# Altium footprint library Elet_pot_2.PcbLib: 15 footprints
Each footprint in its own frame and in the unit in brackets; x right, y up, seen from the top. Pads: shape width x height; smd on the part's side, far side on the other; paste and mask are expansions set on the pad; w line width, h text height; cw(c..) or ccw(c..) is an arc to the next point about the centre after c.
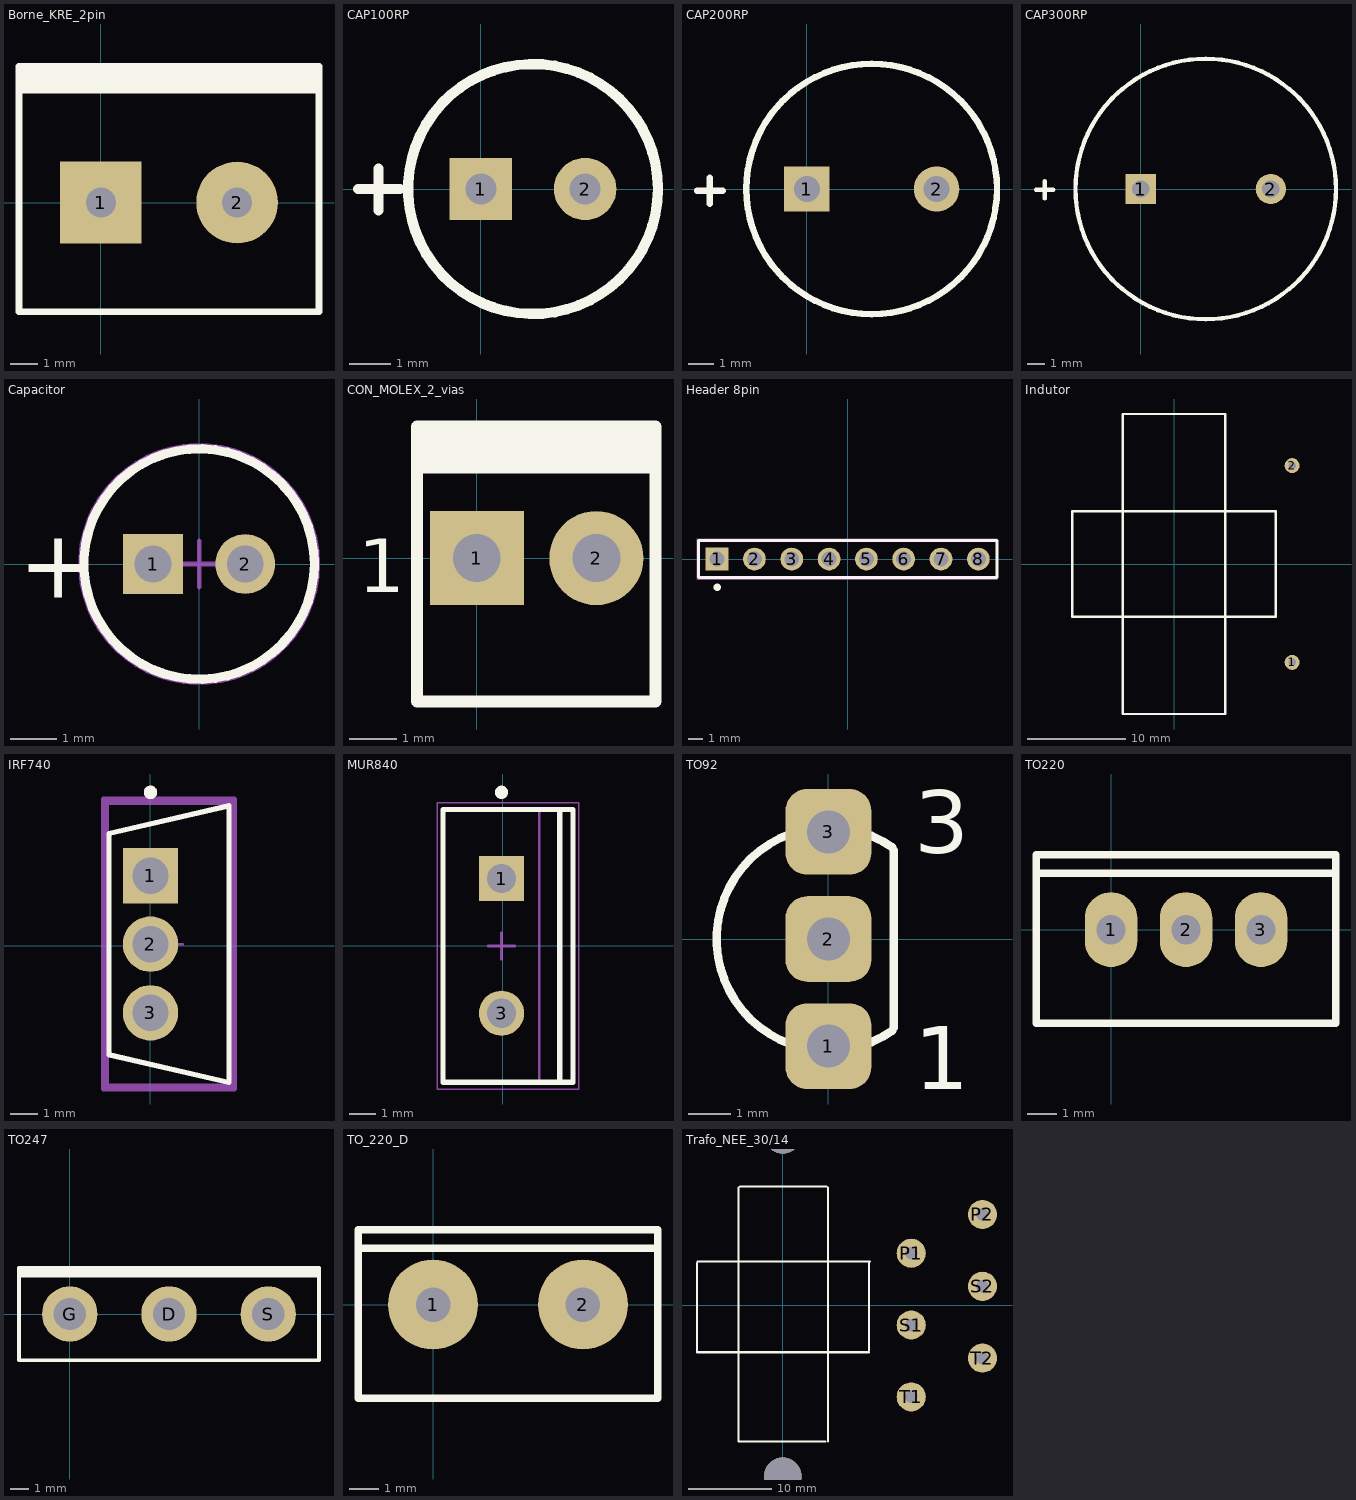
[diagram p0: the footprints below, top view; thin cyan lines are the x and y axes]

## Borne_KRE_2pin [mm]
pads (2):
  rect 3x3 hole 1.1: 1(0,0)
  round 3 hole 1.1: 2(5,0)
Top Overlay:
  rectangle: -3,4.15 8,5
  lines w0.254: -3,4.125 8,4.125 ; -1.275,4.125 -1.275,5 ; -3,-4 8,-4 8,5 -3,5 -3,-4

## CAP100RP [mil]
pads (2):
  rect 60x60 hole 30: 1(0,0)
  round 60 hole 30: 2(100,0)
Top Overlay:
  circle w10: c50,0 r120
  lines w10: -118.11,0 -78.11,0 ; -98.42,-20.32 -98.42,19.68
Bottom Overlay:
  circle w10: c50,0 r120
  lines w10: -118.11,0 -78.11,0 ; -98.42,-20.32 -98.42,19.68

## CAP200RP [mil]
pads (2):
  rect 70x70 hole 40: 1(0,0)
  round 70 hole 40: 2(200,0)
Top Overlay:
  circle w10: c100,0 r192.91
  lines w10: -169,-3 -129,-3 ; -149,-23 -149,17

## CAP300RP [mil]
pads (2):
  rect 70x70 hole 40: 1(0,0)
  round 70 hole 40: 2(300,0)
Top Overlay:
  circle w10: c150,0 r300
  lines w10: -241,-2 -201,-2 ; -221,-22 -221,18

## Capacitor [mm]
pads (2):
  rect 1.3x1.3 hole 0.8: 1(-1,0)
  round 1.3 hole 0.8: 2(1,0)
Top Overlay:
  circle w0.2: c0,0 r2.5
  text "+" at -3.908,-0.737 h1.5
Mechanical 13:
  circle w0.1: c0,0 r2.5
Mechanical 15:
  circle w0.05: c0,0 r2.6
  lines w0.1: -0.5,0 0.5,0 ; 0,-0.5 0,0.5
3D body: height 12, standoff 0, extent -2,-2 1.999,1.999
3D body: height 11.89, standoff 0.02, extent -2.449,-2.449 2.449,2.449
3D body: height 12, standoff 0.01, extent -2.499,-2.499 2.432,2.499
3D body: height 0, standoff -14, extent 0.752,-0.249 1.25,0.25
3D body: height 0, standoff -17, extent -1.248,-0.249 -0.75,0.25

## CON_MOLEX_2_vias [mm]
pads (2):
  rect 2x2 hole 1.016: 1(0,0)
  round 2 hole 1.016: 2(2.54,0)
Top Overlay:
  rectangle: -1.275,1.95 3.85,2.8
  lines w0.254: -1.275,2.55 -1.275,-3.05 0.51,-3.05 3.8,-3.05 3.8,2.8 -1.275,2.8 -1.275,1.925 3.8,1.925
  text "1" at -2.525,-0.725 h1.14

## Header 8pin [mm]
pads (8):
  rect 1.55x1.55 hole 1.016: 1(-8.89,0)
  round 1.55 hole 1.016: 2(-6.35,0) 3(-3.81,0) 4(-1.27,0) 5(1.27,0) 6(3.81,0) 7(6.35,0) 8(8.89,0)
Top Overlay:
  circle w0.25: c-8.89,-1.92 r0.125
  lines w0.2: -10.16,-1.27 10.16,-1.27 10.16,1.27 -10.16,1.27 -10.16,-1.27
Mechanical 13:
  lines w0.1: -10.16,-1.27 -10.16,1.27 10.16,1.27 10.16,-1.27 -10.16,-1.27
Mechanical 15:
  lines w0.05: -10.26,-1.37 10.16,-1.37 10.16,1.37 -10.26,1.37 -10.26,-1.37

## Indutor [mil]
pads (2):
  round 60 hole 30: 1(472.44,-393.7) 2(472.44,393.7)
via 0,-789.37 diameter 177.17 hole 177.17
via 0,787.4 diameter 177.17 hole 177.17
Top Overlay:
  lines w10: -407.48,-210.63 407.48,-210.63 407.48,210.63 -407.48,210.63 -407.48,-210.63 ; -204.72,-600.39 204.72,-600.39 204.72,600.39 -204.72,600.39 -204.72,-600.39
3D body: height 1216.54, standoff 0, extent -204.72,-599.41 204.72,599.41
3D body: height 944.88, standoff 157.48, extent -407.48,-210.63 405.51,210.63

## IRF740 [mm]
pads (3):
  rect 2.05x2.05 hole 1.35 paste-2539.97 mask+0: 1(0,2.59)
  round 2.05 hole 1.35 paste-2539.97 mask+0: 2(0,0.05) 3(0,-2.49)
Top Overlay:
  circle w0.25: c0,5.67 r0.125
  lines w0.2: 2.907,-5.07 -1.538,-4.046 -1.538,4.146 2.907,5.17 ; 2.907,-5.02 2.907,5.12
Top 3D Body:
  lines w0.2: -1.64,-5.21 3.01,-5.21 3.01,5.31 -1.64,5.31 -1.64,-5.21
Board:
  lines w0.2: -1.74,-5.31 3.11,-5.31 3.11,5.41 -1.74,5.41 -1.74,-5.31
Top Assembly:
  lines w0.2: -1.74,-5.31 3.11,-5.31 3.11,5.41 -1.74,5.41 -1.74,-5.31
  text ".Designator" at 0.685,0.049 h1
Top Component Center:
  lines w0.1: 0.185,0.05 1.185,0.05 ; 0.685,-0.45 0.685,0.55
3D body "Trans_Vishay_IRF740PBF_eec.STEP": height 0.25, standoff 0, extent -1.74,-5.31 3.11,5.41

## MUR840 [mm]
pads (2):
  rect 1.7x1.7 hole 1.1: 1(-0.05,2.54)
  round 1.7 hole 1.1: 3(-0.05,-2.54)
Top Overlay:
  circle w0.25: c-0.05,5.8 r0.125
  lines w0.2: 2.145,-5.15 2.145,5.15 ; -2.255,-5.15 2.645,-5.15 2.645,5.15 -2.255,5.15 -2.255,-5.15
Mechanical 13:
  lines w0.1: 1.37,-5.15 1.37,5.15 ; -2.23,-5.15 -2.23,5.15 2.62,5.15 2.62,-5.15 -2.23,-5.15
Mechanical 15:
  lines w0.05: -2.48,-5.4 -2.48,5.4 2.87,5.4 2.87,-5.4 -2.48,-5.4
  lines w0.1: -0.55,0 0.45,0 ; -0.05,-0.5 -0.05,0.5
3D body: height 2.79, standoff 0, extent -0.3,1.875 0.2,3.205
3D body: height 0, standoff -1.6, extent -0.3,2.13 0.2,2.95
3D body: height 2.79, standoff 0, extent -0.3,-3.205 0.2,-1.875
3D body: height 0, standoff -1.6, extent -0.3,-2.95 0.2,-2.13
3D body: height 12.8, standoff 2.79, extent -2.23,-5.15 2.62,5.15
3D body: height 14.33, standoff 12.8, extent 1.37,-4.975 2.62,4.975
3D body: height 14.37, standoff 14.33, extent 1.37,0.376 2.62,4.975
3D body: height 14.37, standoff 14.33, extent 1.37,-4.975 2.62,-0.376
3D body: height 18.18, standoff 18.14, extent 1.37,0.376 2.62,4.975
3D body: height 18.18, standoff 18.14, extent 1.37,-4.975 2.62,-0.376
3D body: height 14.48, standoff 14.36, extent 1.37,0.737 2.62,4.975
3D body: height 14.48, standoff 14.36, extent 1.37,-4.975 2.62,-0.737
3D body: height 18.14, standoff 18.03, extent 1.37,0.737 2.62,4.975
3D body: height 18.14, standoff 18.03, extent 1.37,-4.975 2.62,-0.737
3D body: height 14.65, standoff 14.47, extent 1.37,1.069 2.62,4.975
3D body: height 14.65, standoff 14.47, extent 1.37,-4.975 2.62,-1.069
3D body: height 18.03, standoff 17.85, extent 1.37,1.069 2.62,4.975
3D body: height 18.03, standoff 17.85, extent 1.37,-4.975 2.62,-1.069
3D body: height 14.89, standoff 14.65, extent 1.37,1.361 2.62,4.975
3D body: height 14.89, standoff 14.65, extent 1.37,-4.975 2.62,-1.361
3D body: height 17.86, standoff 17.61, extent 1.37,1.361 2.62,4.975
3D body: height 17.86, standoff 17.61, extent 1.37,-4.975 2.62,-1.361
3D body: height 15.19, standoff 14.89, extent 1.37,1.601 2.62,4.975
3D body: height 15.19, standoff 14.89, extent 1.37,-4.975 2.62,-1.601
3D body: height 17.62, standoff 17.32, extent 1.37,1.601 2.62,4.975
3D body: height 17.62, standoff 17.32, extent 1.37,-4.975 2.62,-1.601
3D body: height 15.52, standoff 15.18, extent 1.37,1.778 2.62,4.975
3D body: height 15.52, standoff 15.18, extent 1.37,-4.975 2.62,-1.778
3D body: height 17.32, standoff 16.99, extent 1.37,1.778 2.62,4.975
3D body: height 17.32, standoff 16.99, extent 1.37,-4.975 2.62,-1.778
3D body: height 15.88, standoff 15.51, extent 1.37,1.888 2.62,4.975
3D body: height 15.88, standoff 15.51, extent 1.37,-4.975 2.62,-1.888
3D body: height 16.99, standoff 16.63, extent 1.37,1.888 2.62,4.975
3D body: height 16.99, standoff 16.63, extent 1.37,-4.975 2.62,-1.888
3D body: height 16.25, standoff 15.87, extent 1.37,1.925 2.62,4.975
3D body: height 16.25, standoff 15.87, extent 1.37,-4.975 2.62,-1.925
3D body: height 16.63, standoff 16.25, extent 1.37,1.925 2.62,4.975
3D body: height 16.63, standoff 16.25, extent 1.37,-4.975 2.62,-1.925
3D body: height 19.05, standoff 18.18, extent 1.37,-4.975 2.62,4.975

## TO92 [mil] "TO, Flat Index; 3 In-Line, Axial Leads; Body Dia. 4.8mm; Leads 0.51 x 0.51 mm (max)"
height 209.84
pads (3):
  rrect50% 80x80 hole 40: 1(0,-100) 2(0,0) 3(0,100)
Top Overlay:
  lines w7.87: 59.84,-85.46 cw(c0,0) 59.84,85.46 ; 61.02,-82.68 61.02,82.68
  text "1" at 80,-140 h59.05
  text "3" at 80,80 h59.05

## TO220 [mil]
pads (3):
  oval 70x100 hole 39 unplated: 1(0,0) 2(100,0) 3(200,0)
Top Overlay:
  lines w10: -100,75 300,75 ; -100,-125 300,-125 300,100 -100,100 -100,-125

## TO247 [mil]
pads (3):
  round 120 hole 70: D(215,0) G(0,0) S(430,0)
Top Overlay:
  lines w7.87: -110,83.33 540,83.33 ; -110,86.67 540,86.67 ; -110,91.67 540,91.67 ; -110,95 540,95 ; -110,-100 540,-100 540,100 -110,100 -110,-100
Bottom Overlay:
  lines w7.87: -110,83.33 540,83.33 ; -110,86.67 540,86.67 ; -110,91.67 540,91.67 ; -110,95 540,95 ; -110,-100 -110,100 540,100 540,-100 -110,-100

## TO_220_D [mil]
pads (2):
  round 120 hole 46: 1(0,0) 2(200,0)
Top Overlay:
  lines w10: -100,75 300,75 ; -100,-125 300,-125 300,100 -100,100 -100,-125

## Trafo_NEE_30/14 [mm]
pads (6):
  round 3.5 hole 1.5: P1(15.4,6.275) P2(23.95,10.925) S1(15.4,-2.35) S2(23.95,2.3) T1(15.4,-10.975) T2(23.95,-6.325)
via 0,-20.5 diameter 4.5 hole 4.5
via 0,20.5 diameter 4.5 hole 4.5
Top Overlay:
  lines w0.254: -10.325,5.075 -10.325,-5.625 10.35,-5.625 ; -10.275,5.275 10.425,5.275 ; -5.325,14.175 -5.325,-16.325 5.075,-16.325 ; -5.175,14.275 5.225,14.275 ; 5.425,-16.325 5.425,14.175 ; 10.35,-5.425 10.35,5.275
Bottom Overlay:
  lines w0.254: -10.325,-5.625 -10.325,5.075 ; -5.325,14.175 -5.325,-16.325 5.075,-16.325 ; -5.175,14.275 5.225,14.275 ; 5.425,-16.325 5.425,14.175
3D body: height 20, standoff 10, extent -10.325,-5.625 10.475,5.25
3D body: height 28, standoff 0, extent -5.325,-16.325 5.425,14.175